# Altium schematic symbol library XH_connector.SchLib: 1 symbol
Pins are listed as number, name and electrical type; pins without a type are passive.

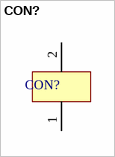
[diagram p0: symbol CON?]

## CON?
designator CON?  (value not drawn)
footprint PCBComponent_1
pins: 1, 2